# Altium schematic symbol library chip.SCHLIB: 38 symbols
Pins are listed as number, name and electrical type; pins without a type are passive.

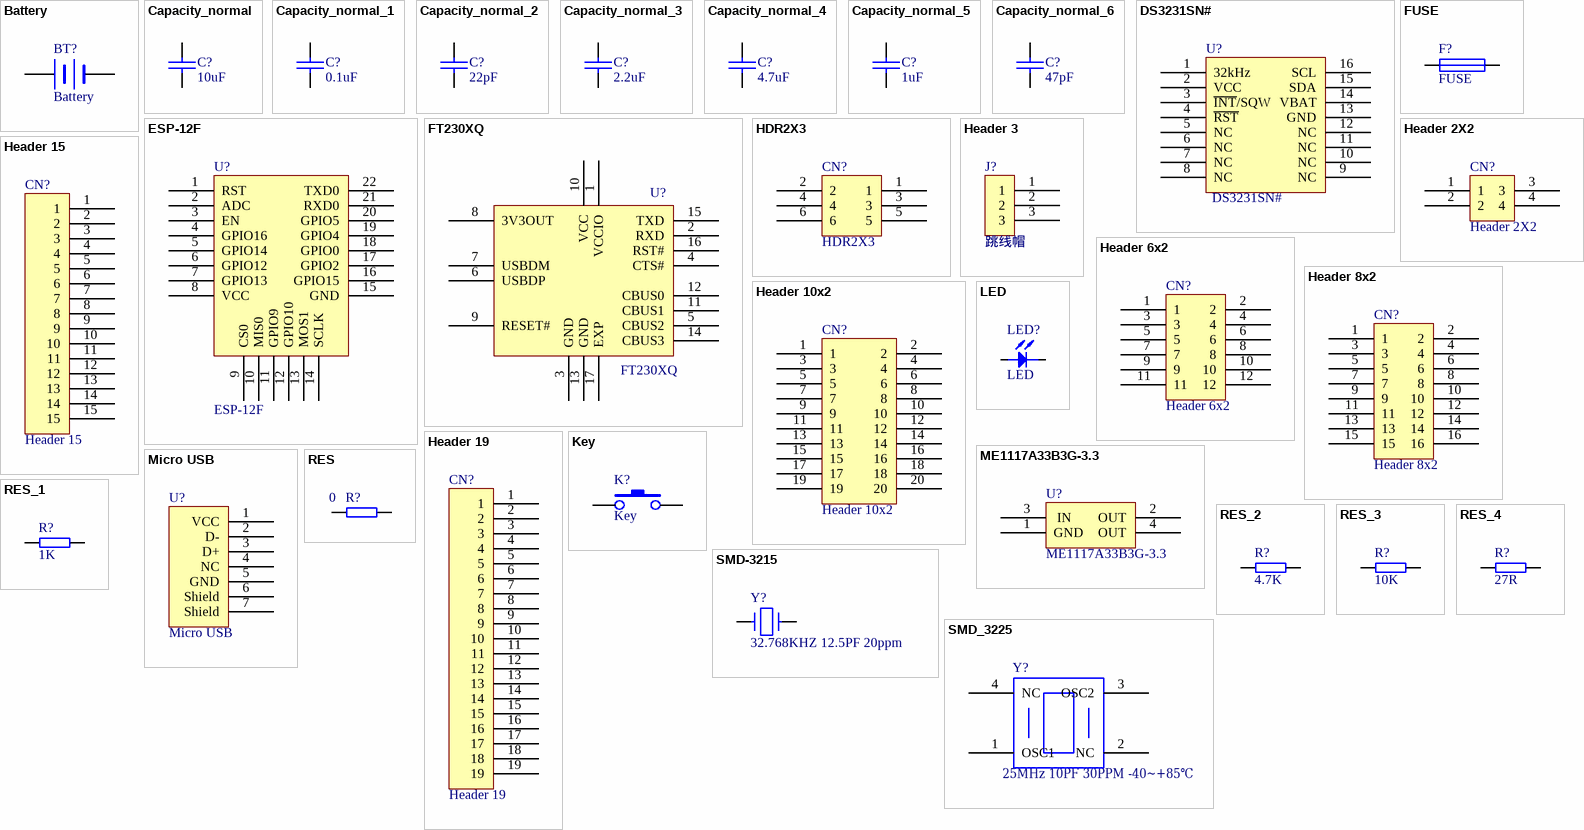
[diagram p0: symbols Battery to SMD_3225]

## Battery
designator BT?
Manufactor: Q&J; Value: CR1220-2 电池卧式底座; Package: CR1220
footprint CR1220-2
pins: 1 +, 2 -

## Capacity_normal
designator C?, comment 10uF
MAnufactor: YAGEO(国巨); Value: 10uF(106) ±10% 10V; Package: 0603
footprint 0603 - CAP
pins: 1, 2

## Capacity_normal_1
designator C?, comment 0.1uF
MAnufactor: YAGEO(国巨); Value: 100nF(104) ±10% 10V; Package: 0603
footprint 0603 - CAP
pins: 1, 2

## Capacity_normal_2
designator C?, comment 22pF
MAnufactor: Knowles(楼氏); Value: 22pF ±1% 10V; Package: 0603
footprint 0603 - CAP
pins: 1, 2

## Capacity_normal_3
designator C?, comment 2.2uF
MAnufactor: SAMSUNG(三星); Value: 2.2uF(225) ±10% 10V; Package: 0603
footprint 0603 - CAP
pins: 1, 2

## Capacity_normal_4
designator C?, comment 4.7uF
MAnufactor: muRata(村田); Value: 4.7uF ±10% 6.3V; Package: 0603
footprint 0603 - CAP
pins: 1, 2

## Capacity_normal_5
designator C?, comment 1uF
MAnufactor: YAGEO(国巨); Value: 1uF(105) ±10% 6.3V; Package: 0603
footprint 0603 - CAP
pins: 1, 2

## Capacity_normal_6
designator C?, comment 47pF
MAnufactor: KEMET(基美); Value: 47pF ±1% 10V; Package: 0603
footprint 0603 - CAP
pins: 1, 2

## DS3231SN#
designator U?
实时时钟芯片，SOIC_16; Manufactor: MAXIM(美信); Value: DS3231SN#T&R; Package: SOIC-16_300mil
footprint SOIC-16_300mil
pins: 1 32kHz, 2 VCC, 3 ~{INT}/SQW, 4 ~{RST}, 5 NC, 6 NC, 7 NC, 8 NC, 9 NC, 10 NC, 11 NC, 12 NC, 13  GND, 14 VBAT, 15 SDA, 16 SCL

## ESP-12F
designator U?
Manufactor: Ai-Thinker(安信可); Value: ESP-12F(ESP8266MOD); Package: WIFI Module
footprint ESP-12 slice (2.00mm 8pin  排母)
pins: 1 RST, 2 ADC, 3 EN, 4 GPIO16, 5 GPIO14, 6 GPIO12, 7 GPIO13, 8 VCC, 9 CS0, 10 MIS0, 11 GPIO9, 12 GPIO10, 13 MOS1, 14 SCLK, 15 GND, 16 GPIO15, 17 GPIO2, 18 GPIO0, 19 GPIO4, 20 GPIO5, 21 RXD0, 22 TXD0

## FT230XQ
designator U?
USB转串口 ，QFN-16; Manufactor: FTDI(飞特帝亚); Value: FT230XQ-R; Package: QFN-16_4x4x065P
footprint QFN-16_4x4x065p
pins: 1 VCCIO, 2 RXD, 3 GND, 4 CTS#, 5 CBUS2, 6 USBDP, 7 USBDM, 8 3V3OUT, 9 RESET#, 10 VCC, 11 CBUS1, 12 CBUS0, 13 GND, 14 CBUS3, 15 TXD, 16 RST#, 17 EXP

## FUSE
designator F?
Manufactor: 良胜; Value: 1A/32V; Package: SMD0603
footprint PTC
pins: 1, 2

## HDR2X3
designator CN?
Manufactor: CJT(长江连接器); Value: 杜邦2.0排针直插 镀金 6P 双排 针座连接器; Package: Through Hole,P=2mm
footprint HDR2X3 - duplicate1 (2mm 2x3pin 排针)
pins: 1, 2, 3, 4, 5, 6

## Header 2X2
designator CN?
Value: 排针 2X2 2.54; Manufactor: *
footprint HDR2X2 - duplicate (Connector; Header; 2x2 Position)
pins: 1, 2, 3, 4

## Header 3
designator J?, comment 跳线帽
Header,3-pin; Manufactor: *; Package: 2mm 1X3排针
footprint HDR1X3 - duplicate1 (2mm 3 pin 排针)
pins: 1, 2, 3

## Header 6x2
designator CN?
6x2 双排，2.54mm间距
footprint HDR2X6 (Connector; Header; 6x2 Position)
pins: 1, 2, 3, 4, 5, 6, 7, 8, 9, 10, 11, 12

## Header 8x2
designator CN?
8x2双排，2.54mm间距
footprint HDR2X8 (Connector; Header; 8x2 Position)
pins: 1, 2, 3, 4, 5, 6, 7, 8, 9, 10, 11, 12, 13, 14, 15, 16

## Header 10x2
designator CN?
10x2 双排，2.54mm间距
footprint HDR2X10 (Connector; Header; 10x2 Position)
pins: 1, 2, 3, 4, 5, 6, 7, 8, 9, 10, 11, 12, 13, 14, 15, 16, 17, 18, 19, 20

## Header 15
designator CN?
15 单排，2.54mm间距
footprint HDR1X15 (Connector; Header; 15 Position)
pins: 1, 2, 3, 4, 5, 6, 7, 8, 9, 10, 11, 12, 13, 14, 15

## Header 19
designator CN?
19 单排，2.54mm间距
footprint HDR1X19 - duplicate (Connector; Header; 19 Position)
pins: 1, 2, 3, 4, 5, 6, 7, 8, 9, 10, 11, 12, 13, 14, 15, 16, 17, 18, 19

## Key
designator K?
Manufactor: SHOU HAN(首韩); Value: 轻触开关 3*6*3.5侧按 直径0.6定位柱 白体黑头 250力度; Package: SMD
footprint Key 3*6*3.5侧按
pins: C 1, D 2

## LED
designator LED?
Manufactor: 台湾亿光; Package: 0603; Value: *
footprint 0603-LED
pins: 1, 2

## ME1117A33B3G-3.3
designator U?
Manufactor: MICRONE(南京微盟); Value: AMS1117-3.3; Package: SOT-223
footprint ME1117A33B3G
pins: 1 GND, 2 OUT, 3  IN, 4 OUT

## Micro USB
designator U?
Manufactor: 精拓金; Value: C46389; Package: SMD
footprint USB-C46389
pins: 1 VCC, 2 D-, 3 D+, 4 NC, 5 GND, 6 Shield, 7 Shield

## RES
designator R?, comment 0
Manufactor: YAGEO(国巨); Value: 0Ω(0000) ±1%; Package: 0603
footprint 0603 - RES
pins: 1, 2

## RES_1
designator R?, comment 1K
Manufactor: YAGEO(国巨); Value: 1KΩ(1K) ±1% 50PPM; Package: 0603
footprint 0603 - RES
pins: 1, 2

## RES_2
designator R?, comment 4.7K
Manufactor: YAGEO(国巨); Value: 4.7KΩ(472) ±5%; Package: 0603
footprint 0603 - RES
pins: 1, 2

## RES_3
designator R?, comment 10K
Manufactor: UNI-ROYAL(厚声); Value: 10KΩ ±1%; Package: 0603
footprint 0603 - RES
pins: 1, 2

## RES_4
designator R?, comment 27R
Manufactor: UNI-ROYAL(厚声); Value: 27Ω ±1%; Package: 0603
footprint 0603 - RES
pins: 1, 2

## SMD-3215
designator Y?, comment 32.768KHZ 12.5PF 20ppm
Manufactor: TAITIEN(泰艺电子); Package: SMD-3215-2P; Value: 32.768KHZ 12.5PF 20ppm
footprint SMD-3215-2p
pins: 1, 2

## SMD_3225
designator Y?  value 25MHz 10PF 30PPM -40~+85℃  (hidden comment: SMD_3225)
Manufactor: TAITIEN(泰艺电子); Package: SMD-3225_4P
footprint SMD-3225 4p
pins: 1 OSC1, 2 NC, 3 OSC2, 4 NC

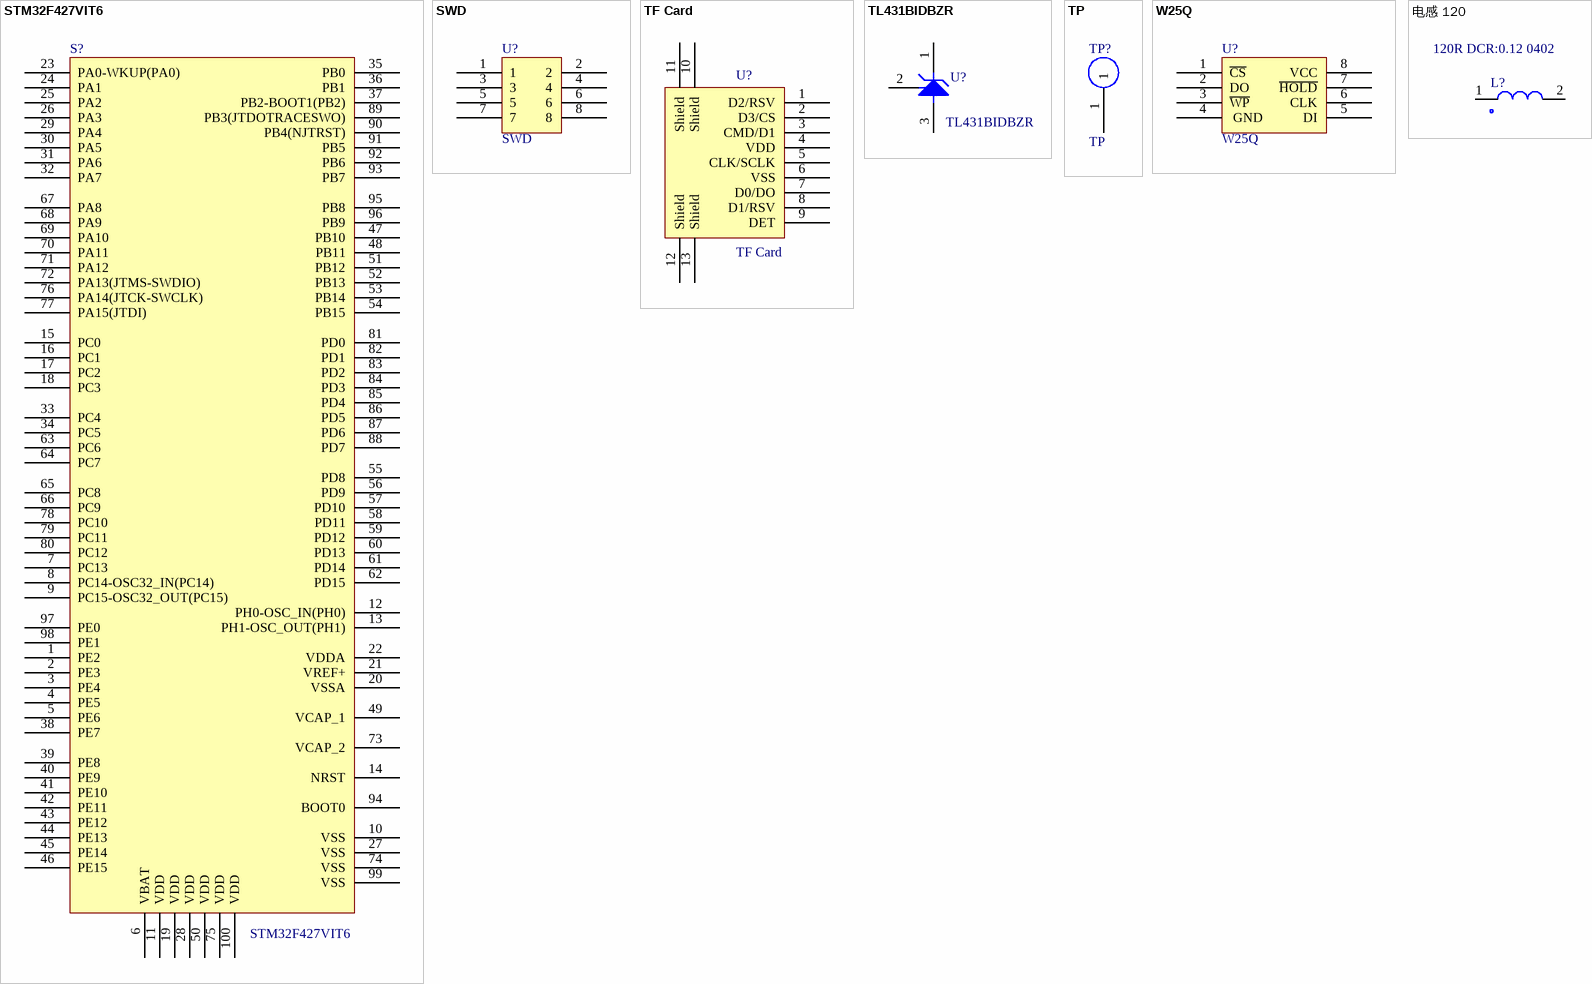
[diagram p1: symbols STM32F427VIT6 to 电感 120]

## STM32F427VIT6
designator S?
Manufactor: ST; Package: LQFP100
footprint LQFP100_M
pins: 1 PE2, 2 PE3, 3 PE4, 4 PE5, 5 PE6, 6 VBAT, 7 PC13, 8 PC14-OSC32_IN(PC14), 9 PC15-OSC32_OUT(PC15), 10 VSS, 11 VDD, 12 PH0-OSC_IN(PH0), 13 PH1-OSC_OUT(PH1), 14 NRST, 15 PC0, 16 PC1, 17 PC2, 18 PC3, 19 VDD, 20 VSSA, 21 VREF+, 22 VDDA, 23 PA0-WKUP(PA0), 24 PA1, 25 PA2, 26 PA3, 27 VSS, 28 VDD, 29 PA4, 30 PA5, 31 PA6, 32 PA7, 33 PC4, 34 PC5, 35 PB0, 36 PB1, 37 PB2-BOOT1(PB2), 38 PE7, 39 PE8, 40 PE9, 41 PE10, 42 PE11, 43 PE12, 44 PE13, 45 PE14, 46 PE15, 47 PB10, 48 PB11, 49 VCAP_1, 50 VDD, 51 PB12, 52 PB13, 53 PB14, 54 PB15, 55 PD8, 56 PD9, 57 PD10, 58 PD11, 59 PD12, 60 PD13, 61 PD14, 62 PD15, 63 PC6, 64 PC7, 65 PC8, 66 PC9, 67 PA8, 68 PA9, 69 PA10, 70 PA11, 71 PA12, 72 PA13(JTMS-SWDIO), 73 VCAP_2, 74 VSS, 75 VDD, 76 PA14(JTCK-SWCLK), 77 PA15(JTDI), 78 PC10, 79 PC11, 80 PC12, 81 PD0, 82 PD1, 83 PD2, 84 PD3, 85 PD4, 86 PD5, 87 PD6, 88 PD7, 89 PB3(JTDOTRACESWO), 90 PB4(NJTRST), 91 PB5, 92 PB6, 93 PB7, 94 BOOT0, 95 PB8, 96 PB9, 97 PE0, 98 PE1, 99 VSS, 100 VDD

## SWD
designator U?
SWD接口; Manufactor: CJT(长江连接器); Value: 8P,脚距2.54mm; Package: Through Hole,P=2.54mm
footprint SWD-8p
pins: 1, 2, 3, 4, 5, 6, 7, 8

## TF Card
designator U?
TF card,TF-15x15; Manufactor: SOFNG(硕方); Value: TF-015; Package: *
footprint TF-015 (Micro TF)
pins: 1 D2/RSV, 2 D3/CS, 3 CMD/D1, 4 VDD, 5 CLK/SCLK, 6 VSS, 7 D0/DO, 8 D1/RSV, 9 DET, 10 Shield, 11 Shield, 12 Shield, 13 Shield

## TL431BIDBZR
designator U?
Manufactor: TI(德州仪器); Package: SOT-23(SOT-23-3); Value: TL431BIDBZR
footprint SOT-23-3
pins: 1 ENODE, 2 REF, 3 CHATHODAN

## TP
designator TP?
Test Point
footprint Test-1
pins: 1

## W25Q
designator U?
W25Q，WSON-8; Manufactor: WINBOND(华邦); Value: W25Q80DVSSIG; Package: SOIC-8_208mil
footprint SOIC-8_208mil
pins: 1 ~{CS}, 2 DO, 3 ~{WP}, 4  GND, 5 DI, 6 CLK, 7  ~{HOLD}, 8  VCC

## 电感 120
designator L?, comment 120R DCR:0.12 0402
Manufactor: RESI(开步睿思）; Value: 120Ω(120R) ±1%; Package: 0603
footprint 120R DCR=0.12 0402
pins: 1, 2